# EAGLE library part 1X10-? (library shcustomlib)
Male Pin Header 1x10 Package(s): 0.1" (2.54 mm) Pitch Manufacturer(s): Generic Standard 0.1" (2.54 mm) pitch pin header.
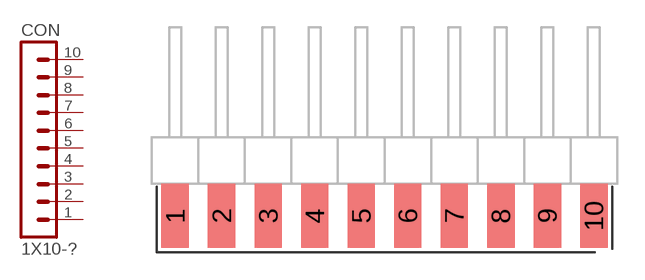
[diagram p11: symbol with the pads of 1X10-EDGEL; footprint 1X10-EDGEL]

Designator prefix CON

## 1X10-EDGEL  [1X10-EDGEL]
1  1  pas
2  2  pas
3  3  pas
4  4  pas
5  5  pas
6  6  pas
7  7  pas
8  8  pas
9  9  pas
10  10  pas

## Footprint 1X10-EDGEL (pad centres in mm)
smd 1.5 x 3.5: 1 0,-0.25; 2 2.54,-0.25; 3 5.08,-0.25; 4 7.62,-0.25; 5 10.16,-0.25; 6 12.7,-0.25; 7 15.24,-0.25; 8 17.78,-0.25; 9 20.32,-0.25; 10 22.86,-0.25